# Altium schematic symbol library IHLP4040DZER4R7M01.SchLib: 1 symbol
Pins are listed as number, name and electrical type; pins without a type are passive.

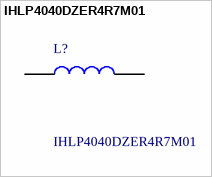
[diagram p0: symbol IHLP4040DZER4R7M01]

## IHLP4040DZER4R7M01
designator L?
Vishay IHLP4040DZ-01 Series Shielded Wire-wound SMD Inductor 4.7 uH +/-20% 9.5A Idc; Geometry.Height: 4mm; Manufacturer_Name: Vishay; Manufacturer_Part_Number: IHLP4040DZER4R7M01; Mouser Part Number: 70-IHLP4040DZER4R7M0; Mouser Price/Stock: https://www.mouser.co.uk/ProductDetail/Vishay-Dale/IHLP4040DZER4R7M01?qs=gMuw6kkpPFgj12zCspJ5MQ%3D%3D; Arrow Part Number: IHLP4040DZER4R7M01; Arrow Price/Stock: https://www.arrow.com/en/products/ihlp4040dzer4r7m01/vishay?utm_currency=USD&region=nac; Datasheet Link: https://www.vishay.com/docs/34193/ihlp-4040dz-01.pdf
footprint INDPM108102X400N
pins: 1, 2